# Altium schematic symbol library AUVic_Schematic_Library_Diodes.SchLib: 24 symbols
Pins are listed as number, name and electrical type; pins without a type are passive.

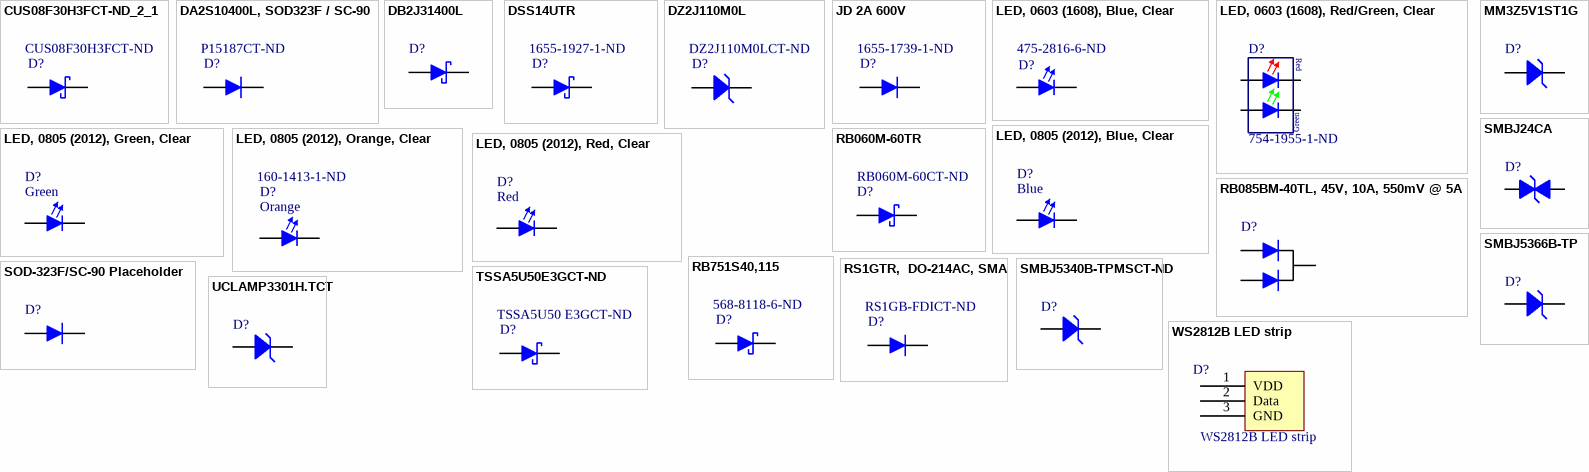
[diagram p0: symbols CUS08F30H3FCT-ND_2_1 to WS2812B LED strip]

## CUS08F30H3FCT-ND_2_1
designator D?  Supplier Part Number 1: CUS08F30H3FCT-ND  (hidden comment: *)
Diode, Schottky, 30V, 800mA; Created By: Andy Bates; Publisher: AUVic; Date Created: 2016-09-09; Supplier 1: Digi-Key
footprint SC-76
pins: A Anode, K Cathode

## DA2S10400L, SOD323F / SC-90
designator D?  Supplier Part Number 1: P15187CT-ND  (hidden comment: *)  (no BOM)
DA2S10400L, SOD323F / SC-90; Forward Voltage Drop: 1.1V; Created By: Andy Bates; Publisher: AUVic; Date Created: 2016-09-08; Supplier 1: Digi-Key
footprint SODFL535X110-2N (SODFL, 2-Leads, Body 3.63x5.35mm, IPC Medium Density)
pins: 1 Anode, 2 Cathode

## DB2J31400L
designator D?  (value not drawn)
Diode, Schottky, 20V, 30mA; Created By: Ashwin Sira; Publisher: AUVic; Date Created: 2016-06-08; Supplier 1: Digi-Key; Supplier Part Number 1: DB2J31400LCT-ND
footprint SODFL250X80-2N (SODFL, 2-Leads, Body 1.25x2.50mm, IPC Medium Density)
pins: 1 Cathode, 2 Anode

## DSS14UTR
designator D?  Supplier Part Number 1: 1655-1927-1-ND  (hidden comment: *)
Diode, Schottky, 40V, 1A; Created By: Robert Keen; Publisher: AUVic; Date Created: 2018-07-11; ComponentLink1Description: Digikey; ComponentLink1URL: https://www.digikey.ca/product-detail/en/smc-diode-solutions/DSS14UTR/1655-1927-1-ND/8341869; Supplier 1: Digi-Key
footprint SOD-123F
pins: A Anode, K Cathode

## DZ2J110M0L
designator D?  Supplier Part Number 1: DZ2J110M0LCT-ND  (hidden comment: *)
DIODE ZENER 11V 200MW ±5% SOD323; Impedance (Max) (Zzt): 30 Ohm; Current - Reverse Leakage @ Vr: 50nA @ 8V; Category: Panasonic Electronic Components; Voltage - Zener (Nom) (Vz): 11V; Tolerance: ±5%; Power - Max: 200mW; Mounting Type: Surface Mount; Supplier Device Package: SOD-323; Supplier 1: Digi-Key
footprint SC-90
pins: A Anode, K Cathode

## JD 2A 600V
designator D?  Supplier Part Number 1: 1655-1739-1-ND  (hidden comment: *)
Junction Diode 2A 600V; Created By: Poorna Chander Kalidas; Publisher: AUVic; Date Created: 2018-06-07; ComponentLink1Description: Digi-Key; ComponentLink1URL: https://www.digikey.ca/product-detail/en/smc-diode-solutions/S2JTR/1655-1739-1-ND/6674450; Supplier 1: Digi-Key
footprint DO-214AA
pins: A Anode, K Cathode

## LED, 0603 (1608), Blue, Clear
designator D?, comment Supplier Part Number 1: 475-2816-6-ND  (hidden comment: Blue)
LED, 0603 (1608), Blue, Clear; Colour: Blue; Created By: Lyden Smith; Date Created: 2017-09-19; Supplier 1: Digi-Key
footprint LED0603
pins: 1 Cathode, 2 Anode

## LED, 0603 (1608), Red/Green, Clear
designator D?  Supplier Part Number 1: 754-1955-1-ND
LED, 0603 (1608), Red/Green, Clear; Colour 1: Red; Colour 2: Green; Created By: Ashwin Sira; Supplier 1: Digi-Key
footprint LED0603_DUAL
pins: 1 Cathode, 2 Anode, 3 Anode, 4 Cathode
1 alternate drawing of the same symbol

## LED, 0805 (2012), Blue, Clear
designator D?, comment Blue
LED, 0805 (2012), Blue, Clear; Colour: Red; Created By: Ashwin Sira; Supplier 1: Digi-Key; Supplier Part Number 1: 732-4982-1-ND
footprint LED0805
pins: 1 Cathode, 2 Anode

## LED, 0805 (2012), Green, Clear
designator D?, comment Green
LED, 0805 (2012), Green, Clear; Colour: Green; Created By: Andy Bates; Supplier 1: Digi-Key; Supplier Part Number 1: 475-1410-1-ND
footprint LED0805
pins: 1 Cathode, 2 Anode

## LED, 0805 (2012), Orange, Clear
designator D?, comment Orange  Supplier Part Number 1: 160-1413-1-ND
LED, 0805 (2012), Orange, Clear; Colour: Orange; Created By: Robert Keen; ComponentLink1Description: Digikey; ComponentLink1URL: https://www.digikey.ca/product-detail/en/lite-on-inc/LTST-C170KFKT/160-1413-1-ND/386774; Supplier 1: Digi-Key
footprint LED0805
pins: 1 Cathode, 2 Anode

## LED, 0805 (2012), Red, Clear
designator D?, comment Red
LED, 0805 (2012), Red, Clear; Supplier 1: Digi-Key; Supplier Part Number 1: 732-4984-1-ND; Colour: Red; Created By: Ashwin Sira
footprint LED0805
pins: 1 Cathode, 2 Anode

## MM3Z5V1ST1G
designator D?  (value not drawn)
DIODE ZENER 5.1V 200MW SOD323; Manufacturer: ON Semiconductor; Manufacturer Part Number: MM3Z5V1ST1G; Tolerance: ±2%; Impedance (Max) (Zzt): 60 Ohm; Current - Reverse Leakage @ Vr: 2µA @ 2V; Voltage - Forward (Vf) (Max) @ If: 900mV @ 10mA; Supplier 1: Digi-Key; RoHS: RoHS Compliant; Category: Discrete Semiconductor Products; Stock 1: 60540; Pricing 1: 1=0.15, 10=0.137, 25=0.1248, 100=0.0899, 250=0.05296, 500=0.04394, 1000=0.02997 (USD); Packaging: Cut Tape (CT); Voltage - Zener (Nom) (Vz): 5.1V; Power - Max: 200mW; Operating Temperature: -65°C ~ 150°C; Mounting Type: Surface Mount; Package / Case: SC-76, SOD-323; Supplier Device Package: SOD-323; ComponentLink1URL: http://www.onsemi.com/pub_link/Collateral/MM3Z2V4ST1-D.PDF; ComponentLink1Description: http://www.onsemi.com/pub_link/Collateral/MM3Z2V4ST1-D.PDF; Supplier Part Number 1: MM3Z5V1ST1GOSCT-ND
pins: 1 Anode, 2 Cathode

## RB060M-60TR
designator D?  Supplier Part Number 1: RB060M-60CT-ND  (hidden comment: *)
Diode, Schottky, 60V, 2A; Supplier 1: Digi-Key; Created By: Lyden Smith; Date Created: 2017-06-02
footprint SOD-123
pins: A Anode, K Cathode

## RB085BM-40TL, 45V, 10A, 550mV @ 5A
designator D?  (value not drawn)  (no BOM)
RB085BM-40TL, 45V, 10A, 550mV @ 5A; Created By: Andy Bates; Publisher: AUVic; Date Created: 2017-06-06
pins: 1 Anode, 2 Anode, 3 Cathode

## RB751S40,115
designator D?  Supplier Part Number 1: 568-8118-6-ND  (hidden comment: *)
Diode, Schottky, 40V, 120mA; Created By: Andy Bates; Publisher: AUVic; Date Created: 2016-09-09; Supplier 1: Digi-Key
footprint SC-79
pins: A Anode, K Cathode

## RS1GTR,  DO-214AC, SMA
designator D?  Supplier Part Number 1: RS1GB-FDICT-ND  (hidden comment: *)  (no BOM)
RS1GTR,  DO-214AC, SMA; Forward Voltage Drop: 1.3V@1A; Max Reverse Voltage: 400V; Max Peak Non-Repetive Surge Current: 30A; Created By: Andy Bates; Publisher: AUVic; Date Created: 2017-05-10; Supplier 1: Digikey
footprint DO-214AC
pins: 1 Anode, 2 Cathode

## SMBJ24CA
designator D?  (value not drawn)
TVS DIODE 24VWM 38.9VC SMB; Manufacturer: Fairchild Semiconductor; Manufacturer Part Number: SMBJ24CA; Type: Zener; Bidirectional Channels: 1; Voltage - Reverse Standoff (Typ): 24V; Voltage - Breakdown (Min): 26.7V; Voltage - Clamping (Max) @ Ipp: 38.9V; Current - Peak Pulse (10/1000µs): 15.4A; Power - Peak Pulse: 600W; Power Line Protection: No; Supplier 1: Digi-Key; RoHS: RoHS Compliant; Category: Circuit Protection; Stock 1: 31873; Pricing 1: 1=0.58, 10=0.411, 25=0.3372, 100=0.2695, 250=0.19636, 500=0.15946, 1000=0.12257 (USD); Packaging: Cut Tape (CT); Unidirectional Channels: -; Applications: General Purpose; Capacitance @ Frequency: -; Operating Temperature: -55°C ~ 150°C (TJ); Mounting Type: Surface Mount; Package / Case: DO-214AA, SMB; Supplier Device Package: DO-214AA (SMB); ComponentLink1URL: http://www.fairchildsemi.com/datasheets/SM/SMBJ100A.pdf; ComponentLink1Description: http://www.fairchildsemi.com/datasheets/SM/SMBJ100A.pdf; Supplier Part Number 1: SMBJ24CAFSCT-ND
footprint DO-214AC
pins: 1 Anode, 2 Cathode

## SMBJ5340B-TPMSCT-ND
designator D?  (value not drawn)
DIODE ZENER 6V 5W DO214AA; Created On: 2018-01-25; Created By: Lyden Smith; Supplier 1: Digi-Key; Supplier Part Number 1: SMBJ5340B-TPMSDKR-ND
footprint DO-214AA
pins: A Anode, K Cathode

## SMBJ5366B-TP
designator D?  (value not drawn)
DIODE ZENER 39V 5W DO214AA; Manufacturer: Micro Commercial Co; Manufacturer Part Number: SMBJ5366B-TP; Tolerance: ±5%; Impedance (Max) (Zzt): 14 Ohm; Current - Reverse Leakage @ Vr: 500nA @ 29.7V; Voltage - Forward (Vf) (Max) @ If: 1.2V @ 1A; Supplier 1: Digi-Key; RoHS: RoHS Compliant; Category: Discrete Semiconductor Products; Stock 1: 19825; Pricing 1: 1=0.65, 10=0.57, 25=0.504, 100=0.4392, 250=0.38236, 500=0.32548, 1000=0.2607 (USD); Packaging: Cut Tape (CT); Voltage - Zener (Nom) (Vz): 39V; Power - Max: 5W; Operating Temperature: -55°C ~ 150°C; Mounting Type: Surface Mount; Package / Case: DO-214AA, SMB; Supplier Device Package: DO-214AA (SMB); ComponentLink1URL: http://www.mccsemi.com/up_pdf/SMBJ5338B-SMBJ5388B(SMB).pdf; ComponentLink1Description: http://www.mccsemi.com/up_pdf/SMBJ5338B-SMBJ5388B(SMB).pdf; Supplier Part Number 1: SMBJ5366B-TPMSCT-ND
footprint DO-214AC
pins: 1 Anode, 2 Cathode

## SOD-323F/SC-90 Placeholder
designator D?  (value not drawn)  (no BOM)
Placeholder Footprint, SOD323F / SC-90; Created By: Ashwin Sira; Publisher: AUVic; Date Created: 2016-06-08
footprint SODFL250X80-2N (SODFL, 2-Leads, Body 1.25x2.50mm, IPC Medium Density)
pins: 1 Anode, 2 Cathode

## TSSA5U50E3GCT-ND
designator D?  Supplier Part Number 1: TSSA5U50 E3GCT-ND  (hidden comment: *)
Diode Schottky 50V 5A Surface Mount DO-214AC (SMA); Created By: Poorna Chander Kalidas; Date Created: 2018-06-01; Supplier 1: Digi-Key
footprint DO-214AC
pins: 1 Anode, 2 Cathode

## UCLAMP3301H.TCT
designator D?  (value not drawn)
Diode, TVS, 3.5V; Manufacturer: Semtech Corporation; Type: Zener; Unidirectional Channels: 1; Voltage - Reverse Standoff (Typ): 3.3V; Voltage - Clamping (Max) @ Ipp: 8V; Power - Peak Pulse: 40W; RoHS: RoHS Compliant; Voltage - Breakdown (Min): 3.5V; Supplier 1: Digi-Key; Supplier Part Number 1: UCLAMP3301HCT-ND
footprint SODFL160X70-2N (SC-79, SOD-523, SODFL, 2-Leads, Body 0.80x1.60mm, IPC Medium Density)
pins: 1 Anode, 2 Cathode

## WS2812B LED strip
designator D?
ComponentLink1Description: Amazon; ComponentLink1URL: https://www.amazon.ca/CHINLY-Individually-Addressable-Waterproof-waterproof/dp/B01LSF4QDM/ref=sr_1_5?ie=UTF8&qid=1531432995&sr=8-5&keywords=addressable+rgb+led+strip; ComponentLink2Description: WS2812B Datasheet; ComponentLink2URL: https://cdn-shop.adafruit.com/datasheets/WS2812B.pdf; Created by: Robert Keen; Created on: 2018-08-13
pins: 1 VDD, 2 Data, 3 GND